# EAGLE library part DP83848IVV (library selwx_parts)
Ethernet 10/100 PHY
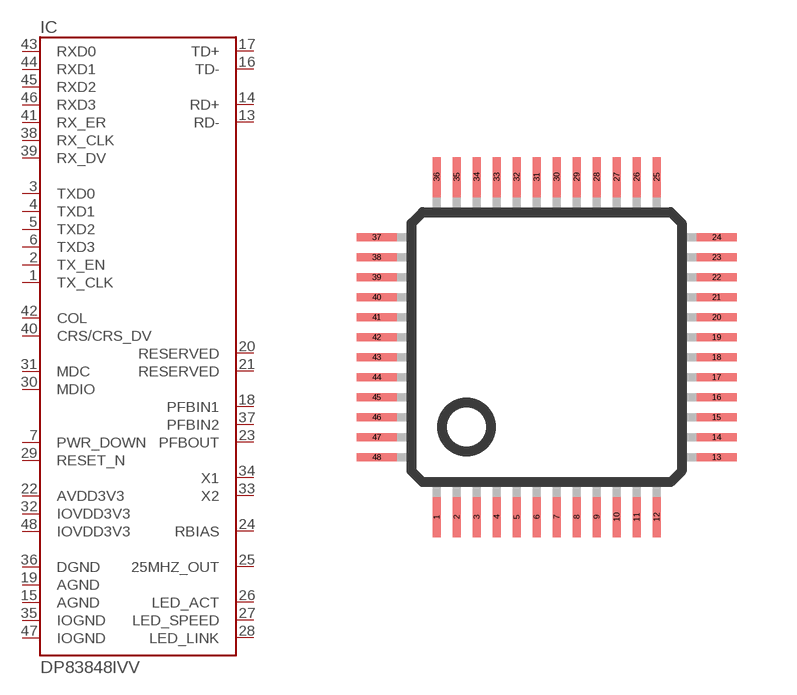
[diagram p0: symbol with the pads of LQFP48; footprint LQFP48]

Designator prefix IC

## DP83848IVV  [LQFP48]
1  TX_CLK
2  TX_EN
3  TXD0
4  TXD1
5  TXD2
6  TXD3
7  PWR_DOWN
13  RD-  in
14  RD+  in
15  AGND  pwr
16  TD-  out
17  TD+  out
18  PFBIN1  in
19  AGND  pwr
20  RESERVED
21  RESERVED
22  AVDD3V3  pwr
23  PFBOUT  out
24  RBIAS
25  25MHZ_OUT  out
26  LED_ACT  out
27  LED_SPEED  out
28  LED_LINK  out
29  RESET_N  in
30  MDIO
31  MDC
32  IOVDD3V3  pwr
33  X2
34  X1
35  IOGND  pwr
36  DGND  pwr
37  PFBIN2  in
38  RX_CLK
39  RX_DV
40  CRS/CRS_DV
41  RX_ER
42  COL
43  RXD0
44  RXD1
45  RXD2
46  RXD3
47  IOGND  pwr
48  IOVDD3V3  pwr

## Footprint LQFP48 (pad centres in mm)
48-pin plastic LQFP (FPT-48P-M26) www.fma.fujitsu.com/pdf/e713717.pdf
smd 0.2 x 1: 1 -2.75,-4.25; 2 -2.25,-4.25; 3 -1.75,-4.25; 4 -1.25,-4.25; 5 -0.75,-4.25; 6 -0.25,-4.25; 7 0.25,-4.25; 8 0.75,-4.25; 9 1.25,-4.25; 10 1.75,-4.25; 11 2.25,-4.25; 12 2.75,-4.25; 25 2.75,4.25; 26 2.25,4.25; 27 1.75,4.25; 28 1.25,4.25; 29 0.75,4.25; 30 0.25,4.25; 31 -0.25,4.25; 32 -0.75,4.25; 33 -1.25,4.25; 34 -1.75,4.25; 35 -2.25,4.25; 36 -2.75,4.25
smd 1 x 0.2: 13 4.25,-2.75; 14 4.25,-2.25; 15 4.25,-1.75; 16 4.25,-1.25; 17 4.25,-0.75; 18 4.25,-0.25; 19 4.25,0.25; 20 4.25,0.75; 21 4.25,1.25; 22 4.25,1.75; 23 4.25,2.25; 24 4.25,2.75; 37 -4.25,2.75; 38 -4.25,2.25; 39 -4.25,1.75; 40 -4.25,1.25; 41 -4.25,0.75; 42 -4.25,0.25; 43 -4.25,-0.25; 44 -4.25,-0.75; 45 -4.25,-1.25; 46 -4.25,-1.75; 47 -4.25,-2.25; 48 -4.25,-2.75